# Altium footprint library DIP254P762X533-8.PcbLib: 1 footprints
Each footprint in its own frame and in the unit in brackets; x right, y up, seen from the top. Pads: shape width x height; smd on the part's side, far side on the other; paste and mask are expansions set on the pad; w line width, h text height; cw(c..) or ccw(c..) is an arc to the next point about the centre after c.
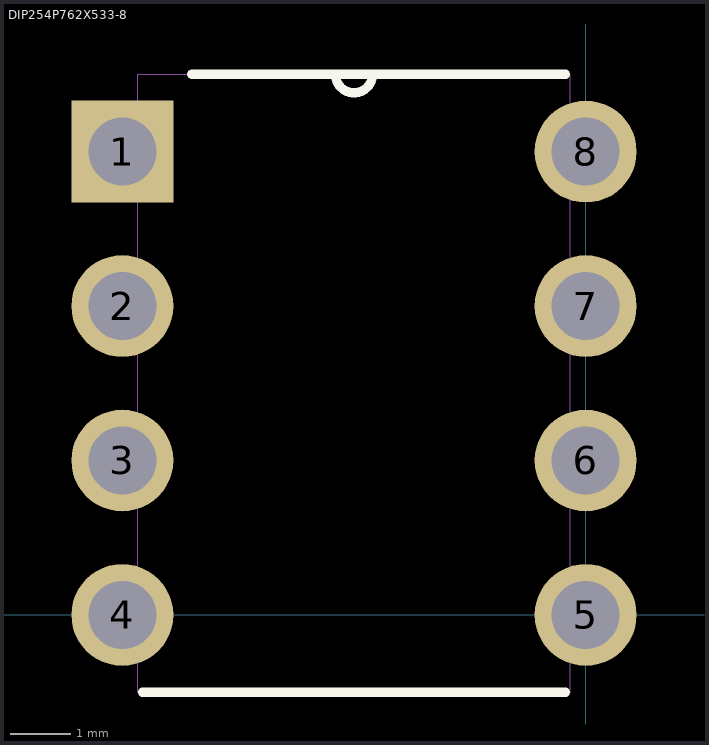
[diagram p0: the footprint, top view; thin cyan lines are the x and y axes]

## DIP254P762X533-8 [mil]
pads (8):
  rect 66x66 / inner round 66 / far side rect 66x66 hole 44: 1(-300,300)
  round 66 hole 44: 2(-300,200) 3(-300,100) 4(-300,0) 5(0,0) 6(0,100) 7(0,200) 8(0,300)
Top Overlay:
  lines w6: -287,-50 -13,-50 ; -255,350 -162,350 ; -13,350 -138,350 ; -162,350 ccw(c-150,350) -138,350 ; -162,350 -138,350
Mechanical 13:
  lines w0: -162,350 ccw(c-150,350) -138,350 ; -162,350 -290,350 -290,-50 -10,-50 -10,350 -138,350 ; -162,350 -138,350 ; -322,-22 -290,-22 -290,22 -322,22 -322,-22 ; -322,78 -290,78 -290,122 -322,122 -322,78 ; -322,178 -290,178 -290,222 -322,222 -322,178 ; -322,278 -290,278 -290,322 -322,322 -322,278 ; -10,-22 22,-22 22,22 -10,22 -10,-22 ; -10,78 22,78 22,122 -10,122 -10,78 ; -10,178 22,178 22,222 -10,222 -10,178 ; -10,278 22,278 22,322 -10,322 -10,278
3D body "step_temp.STEP": height 210, standoff -150, extent -355,-63.75 75,313.75